# Altium schematic symbol library SCH - CONNECTORS - MOLEX.SchLib: 9 symbols
Pins are listed as number, name and electrical type; pins without a type are passive.

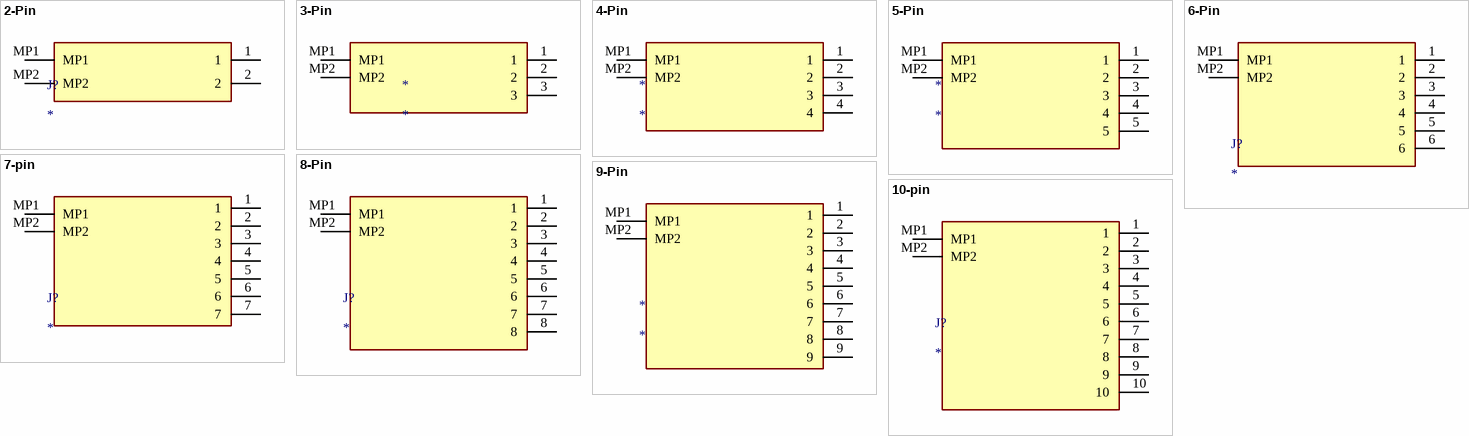
[diagram p0: symbols 2-Pin to 10-pin]

## 2-Pin
designator J?
pins: 1, 2, MP1, MP2

## 3-Pin
designator *
pins: 1, 2, 3, MP1, MP2

## 4-Pin
designator *
pins: 1, 2, 3, 4, MP1, MP2

## 5-Pin
designator *
pins: 1, 2, 3, 4, 5, MP1, MP2

## 6-Pin
designator J?
pins: 1, 2, 3, 4, 5, 6, MP1, MP2

## 7-pin
designator J?
pins: 1, 2, 3, 4, 5, 6, 7, MP1, MP2

## 8-Pin
designator J?
pins: 1, 2, 3, 4, 5, 6, 7, 8, MP1, MP2

## 9-Pin
designator *
pins: 1, 2, 3, 4, 5, 6, 7, 8, 9, MP1, MP2

## 10-pin
designator J?
pins: 1, 2, 3, 4, 5, 6, 7, 8, 9, 10, MP1, MP2